# Altium integrated library ST Video Amplifier.IntLib: 7 symbols
Pins are listed as number, name and electrical type; pins without a type are passive.

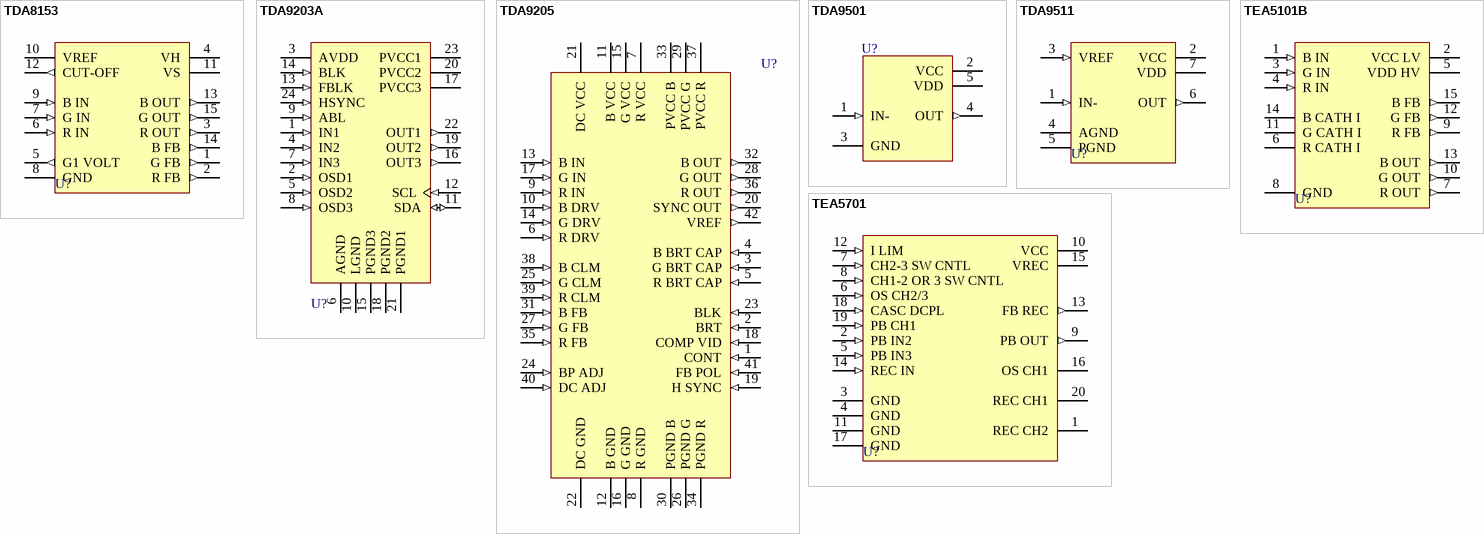
[diagram p0: symbols TDA8153 to TEA5701]

## TDA8153
designator U?
RGB Video Output Amplifier; Published: 24-Aug-2001; LatestRevisionDate: 17-Jul-2002; LatestRevisionNote: Re-released for DXP Platform.; DatasheetVersion: Jan-1993; PackageReference: MULTIWAT15; Publisher: Altium Limited; PackageDescription: TO, Thru-Hole, Vertical, Heatsink Mounted; 15 Bent Staggered Leads; Pitch 1.27 mm; ComponentLink1Description: Manufacturer Link; ComponentLink1URL: http://www.st.com/
footprint MULTIWAT15 (TO, Thru-Hole, Vertical, Heatsink Mounted; 15 Bent Staggered Leads; Pitch 1.27 mm)
pins: 1 G FB (out), 2 R FB (out), 3 R OUT (out), 4 VH (power), 5 G1 VOLT (out), 6 R IN (in), 7 G IN (in), 8 GND (power), 9 B IN (in), 10 VREF, 11 VS (power), 12 CUT-OFF (out), 13 B OUT (out), 14 B FB (out), 15 G OUT (out)

## TDA9203A
designator U?
IIC Bus Controlled 70MKz RGB Preamplifier; Published: 24-Aug-2001; LatestRevisionDate: 06-Jun-2005; LatestRevisionNote: Stylized 3D Model Added.; DatasheetVersion: Jun-1998; PackageVersion: Nov-1999; PackageReference: PSDIP24; Publisher: Altium Limited; PackageDescription: DIP; 24 Leads; Row Spacing 7.62 mm; Pitch 1.778 mm; ComponentLink1Description: Manufacturer Link; ComponentLink1URL: http://www.st.com/
footprint PSDIP24 (DIP; 24 Leads; Row Spacing 7.62 mm; Pitch 1.778 mm)
3D model PSDIP24 (DIP; 24 Leads; Row Spacing 7.62 mm; Pitch 1.778 mm)
pins: 1 IN1 (in), 2 OSD1 (in), 3 AVDD (power), 4 IN2 (in), 5 OSD2 (in), 6 AGND (power), 7 IN3 (in), 8 OSD3 (in), 9 ABL (in), 10 LGND (power), 11 SDA (io), 12 SCL (in), 13 FBLK (in), 14 BLK (in), 15 PGND3 (power), 16 OUT3 (out), 17 PVCC3 (power), 18 PGND2 (power), 19 OUT2 (out), 20 PVCC2 (power), 21 PGND1 (power), 22 OUT1 (out), 23 PVCC1 (power), 24 HSYNC (in)

## TDA9205
designator U?
DC Controlled 130MKz RGB Preamplifier; Published: 24-Aug-2001; LatestRevisionDate: 06-Jun-2005; LatestRevisionNote: Stylized 3D Model Added.; DatasheetVersion: Mar-1996; PackageVersion: Oct-2003; PackageReference: PSDIP42; Publisher: Altium Limited; PackageDescription: DIP, Plastic Shrink; 42 Leads; Row Spacing 15.24 mm; Pitch 1.78 mm; ComponentLink1Description: Manufacturer Link; ComponentLink1URL: http://www.st.com/
footprint PSDIP42 (DIP, Plastic Shrink; 42 Leads; Row Spacing 15.24 mm; Pitch 1.78 mm)
3D model PSDIP42 (DIP, Plastic Shrink; 42 Leads; Row Spacing 15.24 mm; Pitch 1.78 mm)
pins: 1 CONT (in), 2 BRT (in), 3 G BRT CAP (in), 4 B BRT CAP (in), 5 R BRT CAP (in), 6 R DRV (in), 7 R VCC (power), 8 R GND (power), 9 R IN (in), 10 B DRV (in), 11 B VCC (power), 12 B GND (power), 13 B IN (in), 14 G DRV (in), 15 G VCC (power), 16 G GND (power), 17 G IN (in), 18 COMP VID (in), 19 H SYNC (in), 20 SYNC OUT (out), 21 DC VCC (power), 22 DC GND (power), 23 BLK (in), 24 BP ADJ (in), 25 G CLM (in), 26 PGND G (power), 27 G FB (in), 28 G OUT (out), 29 PVCC G (power), 30 PGND B (power), 31 B FB (in), 32 B OUT (out), 33 PVCC B (power), 34 PGND R (power), 35 R FB (in), 36 R OUT (out), 37 PVCC R (power), 38 B CLM (in), 39 R CLM (in), 40 DC ADJ (in), 41 FB POL (in), 42 VREF (out)

## TDA9501
designator U?
AC Coupling High-Voltage Video Amplifier; Published: 24-Aug-2001; LatestRevisionDate: 17-Jul-2002; LatestRevisionNote: PCB Footprint 'DFM-T5/X1.4V' changed; Re-released for DXP Platform.; DatasheetVersion: Feb-1998; PackageVersion: Feb-2004; PackageReference: PentawattV; Publisher: Altium Limited; PackageDescription: TO, Thru-Hole, Vertical, Heatsink Mounted; 5 Bent Staggered Leads; Pitch 1.7 mm; ComponentLink1Description: Manufacturer Link; ComponentLink1URL: http://www.st.com/
footprint PentawattV (TO, Thru-Hole, Vertical, Heatsink Mounted; 5 Bent Staggered Leads; Pitch 1.7 mm)
pins: 1 IN- (in), 2 VCC (power), 3 GND (power), 4 OUT (out), 5 VDD (power)

## TDA9511
designator U?
DC Coupling High-Voltage Video Amplifier; Published: 24-Aug-2001; LatestRevisionDate: 17-Jul-2002; LatestRevisionNote: Re-released for DXP Platform.; DatasheetVersion: Apr-1998; PackageVersion: Jan-1995; PackageReference: HEPTAWATT7; Publisher: Altium Limited; PackageDescription: TO, Thru-Hole, Vertical, Heatsink Mounted; 7 Bent Staggered Leads; Pitch 1.27 mm; ComponentLink1Description: Manufacturer Link; ComponentLink1URL: http://www.st.com/
footprint HEPTAWATT7 (TO, Thru-Hole, Vertical, Heatsink Mounted; 7 Bent Staggered Leads; Pitch 1.27 mm)
pins: 1 IN- (in), 2 VCC (power), 3 VREF (in), 4 AGND (power), 5 PGND (power), 6 OUT (out), 7 VDD (power)

## TEA5101B
designator U?
RGB High-Voltage Video Amplifier; Published: 24-Aug-2001; LatestRevisionDate: 17-Jul-2002; LatestRevisionNote: Re-released for DXP Platform.; DatasheetVersion: May-1996; PackageReference: MULTIWATT15V; Publisher: Altium Limited; PackageDescription: TO, Thru-Hole, Vertical, Heatsink Mounted; 15 Bent Staggered Leads; Pitch 1.27 mm; ComponentLink1Description: Manufacturer Link; ComponentLink1URL: http://www.st.com/
footprint Multiwatt15V (TO, Thru-Hole, Vertical, Heatsink Mounted; 15 Bent Staggered Leads; Pitch 1.27 mm)
pins: 1 B IN (in), 2 VCC LV (power), 3 G IN (in), 4 R IN (in), 5 VDD HV (power), 6 R CATH I, 7 R OUT (out), 8 GND (power), 9 R FB (out), 10 G OUT (out), 11 G CATH I, 12 G FB (out), 13 B OUT (out), 14 B CATH I, 15 B FB (out)

## TEA5701
designator U?
3-Channel, Large Band Head Amplifier For VCR; Published: 24-Aug-2001; LatestRevisionDate: 13-Apr-2006; LatestRevisionNote: IPC-7351 Footprint Added.; DatasheetVersion: Aug-1992; PackageVersion: Jul-2001; PackageReference: SO20; Publisher: Altium Limited; PackageDescription: 20-Pin Plastic Small Outline Integrated Circuit 1.27 mm Pitch; Code_JEDEC: MS-013-AC; Code_IPC: SOIC127P1030-20; ComponentLink1Description: Manufacturer Link; ComponentLink1URL: http://www.st.com/
footprint SO20_N (SOIC, 20-Leads, Body 12.8x7.5mm, Pitch 1.27mm, IPC Medium Density)
footprint SO20_L (SOIC, 20-Leads, Body 12.8x7.5mm, Pitch 1.27mm, IPC High Density)
footprint SO20_M (SOIC, 20-Leads, Body 12.8x7.5mm, Pitch 1.27mm, IPC Low Density)
3D model SO20 (20-Pin Plastic Small Outline Integrated Circuit 1.27 mm Pitch)
pins: 1 REC CH2, 2 PB IN2 (in), 3 GND (power), 4 GND (power), 5 PB IN3 (in), 6 OS CH2/3 (in), 7 CH2-3 SW CNTL (in), 8 CH1-2 OR 3 SW CNTL (in), 9 PB OUT (out), 10 VCC (power), 11 GND (power), 12 I LIM (in), 13 FB REC (out), 14 REC IN (in), 15 VREC (power), 16 OS CH1, 17 GND (power), 18 CASC DCPL (in), 19 PB CH1 (in), 20 REC CH1